# Altium schematic symbol library BAL-UWB-01E3.SchLib: 1 symbol
Pins are listed as number, name and electrical type; pins without a type are passive.

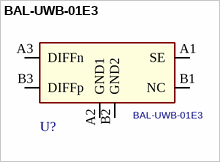
[diagram p0: symbol BAL-UWB-01E3]

## BAL-UWB-01E3
designator U?
footprint ST_CSP6_82x65P2x3_180x125x45
pins: A1 SE, A2 GND1, A3 DIFFn, B1 NC, B2 GND2, B3 DIFFp